# EAGLE library part ICL7106CPLZ (library Intersil_By_element14_Batch_1)
31/2 Digit, LCD/LED Display, A/D Converters
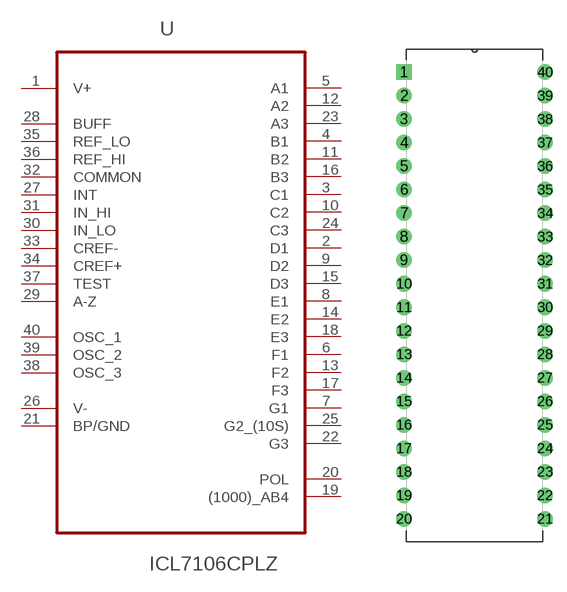
[diagram p171: symbol with the pads of DIP254P1524X635-40; footprint DIP254P1524X635-40]

Designator prefix U

## ICL7106CPLZ (MPN: ICL7106CPLZ; OC_FARNELL: 9663550; OC_NEWARK: 61J6191; PACKAGE: DIP-40; SUPPLIER: INTERSIL)  [DIP254P1524X635-40]
1  V+  pwr
2  D1  out
3  C1  out
4  B1  out
5  A1  out
6  F1  out
7  G1  out
8  E1  out
9  D2  out
10  C2  out
11  B2  out
12  A2  out
13  F2  out
14  E2  out
15  D3  out
16  B3  out
17  F3  out
18  E3  out
19  (1000)_AB4  out
20  POL  out
21  BP/GND  pas
22  G3  out
23  A3  out
24  C3  out
25  G2_(10S)  out
26  V-  pwr
27  INT  in
28  BUFF  in
29  A-Z  pas
30  IN_LO  in
31  IN_HI  in
32  COMMON  in
33  CREF-  in
34  CREF+  in
35  REF_LO  in
36  REF_HI  in
37  TEST  in
38  OSC_3  in
39  OSC_2  in
40  OSC_1  in

## Footprint DIP254P1524X635-40 (pad centres in mm)
drill 1.118 square: 1 -15.24,48.26
drill 1.118: 2 -15.24,45.72; 3 -15.24,43.18; 4 -15.24,40.64; 5 -15.24,38.1; 6 -15.24,35.56; 7 -15.24,33.02; 8 -15.24,30.48; 9 -15.24,27.94; 10 -15.24,25.4; 11 -15.24,22.86; 12 -15.24,20.32; 13 -15.24,17.78; 14 -15.24,15.24; 15 -15.24,12.7; 16 -15.24,10.16; 17 -15.24,7.62; 18 -15.24,5.08; 19 -15.24,2.54; 20 -15.24,0; 21 0,0; 22 0,2.54; 23 0,5.08; 24 0,7.62; 25 0,10.16; 26 0,12.7; 27 0,15.24; 28 0,17.78; 29 0,20.32; 30 0,22.86; 31 0,25.4; 32 0,27.94; 33 0,30.48; 34 0,33.02; 35 0,35.56; 36 0,38.1; 37 0,40.64; 38 0,43.18; 39 0,45.72; 40 0,48.26